# Altium footprint library MSOP11.PcbLib: 1 footprints
Each footprint in its own frame and in the unit in brackets; x right, y up, seen from the top. Pads: shape width x height; smd on the part's side, far side on the other; paste and mask are expansions set on the pad; w line width, h text height; cw(c..) or ccw(c..) is an arc to the next point about the centre after c.
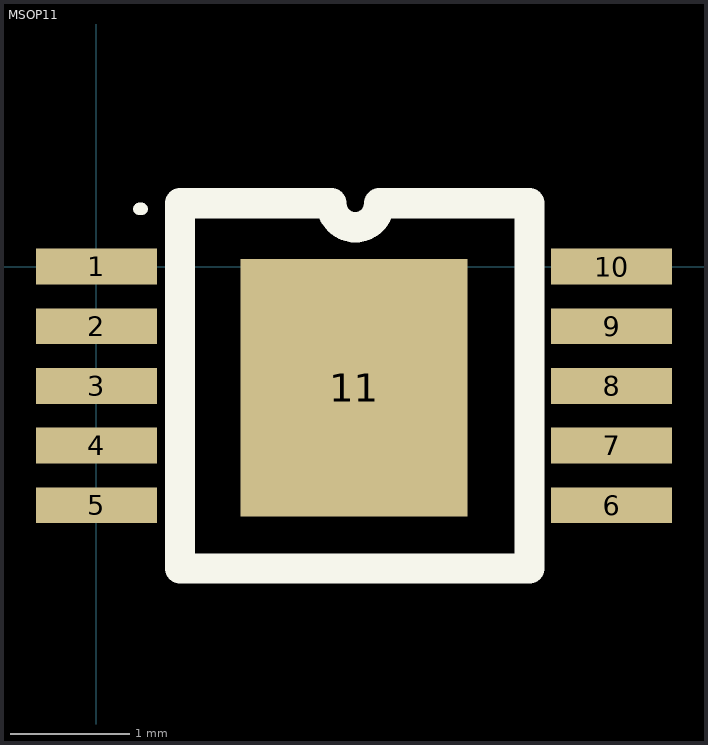
[diagram p0: the footprint, top view; thin cyan lines are the x and y axes]

## MSOP11 [mm]
height 0.86
pads (11):
  rect 1.016x0.3 smd: 1(0,0) 2(0,-0.5) 3(0,-1) 4(0,-1.5) 5(0,-2) 6(4.318,-2) 7(4.318,-1.5) 8(4.318,-1) 9(4.318,-0.5) 10(4.318,0)
  rect 1.9x2.16 smd: 11(2.159,-1.016)
TopOverlay:
  lines w0.1: 0.356,0.483 cw(c0.368,0.47) 0.381,0.483
  lines w0.254: 0.7,-2.53 0.7,0.53 1.97,0.53 ccw(c2.17,0.53) 2.37,0.53 3.63,0.53 3.63,-2.53 0.7,-2.53
Mechanical4:
  text ".040" at 0,0 h0.03